# EAGLE library part SN74LVC138APWR_LCSC (library lcsc_parts)
Description: 3/8 1.65V~3.6V 10uA 6.7ns@3.3V,50pF Level shifting TSSOP-16 Signal Switches, Multiplexers, Decoders RoHS Manufacturer: TI MPN: SN74LVC138APWR LCSC Part: C485077 Category: Signal Switches, Multiplexers, Decoders Datasheet: https://datasheet.lcsc.com/datasheet/pdf/86625edca651f0d846540614add128e2.pdf?productCode=C485077
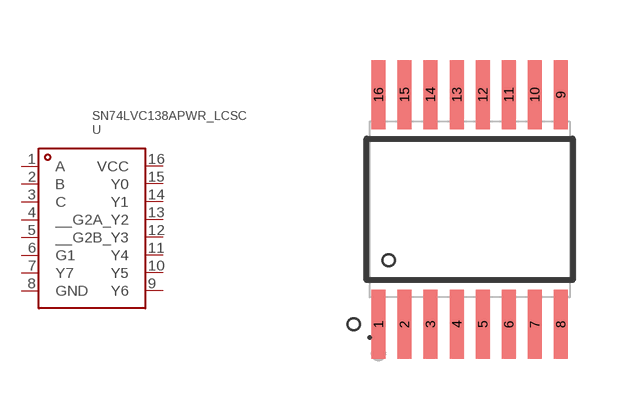
[diagram p7: symbol with the pads of TSSOP-16_L5.0-W4.4-P0.65-LS6.4-BL; footprint TSSOP-16_L5.0-W4.4-P0.65-LS6.4-BL]

Designator prefix U

## SN74LVC138APWR_LCSC (CATEGORY: Signal Switches, Multiplexers, Decoders; CURRENT_OUTPUT_HIGH_IOH: 24mA; CURRENT_OUTPUT_LOW_IOL: 24mA; DATASHEET: https://datasheet.lcsc.com/datasheet/pdf/86625edca651f0d846540614add128e2.pdf?productCode=C485077; DESCRIPTION: 3/8 1.65V~3.6V 10uA 6.7ns@3.3V,50pF Level shifting TSSOP-16 Signal Switches, Multiplexers, Decoders RoHS; FUNCTION: Level shifting; LCSC_PART: C485077; LCSC_STOCK: 1770; MANUFACTURER: TI; MPN: SN74LVC138APWR; NUMBER_OF_CHANNELS: 3/8; OPERATING_TEMPERATURE: -40℃~+85℃; PARTNO: SN74LVC138APWR; PRICING_1000: $0.3736/unit @ 1000; PRICING_50: $0.5214/unit @ 50; PROPAGATION_DELAY: 6.7ns@3.3V,50pF; QUIESCENT_CURRENT: 10uA; SERIES: 74LVC; TYPE: Decoder; VOLTAGE_SUPPLY: 1.65V~3.6V)  [TSSOP-16_L5.0-W4.4-P0.65-LS6.4-BL]
1  A
2  B
3  C
4  __G2A_
5  __G2B_
6  G1
7  Y7
8  GND
9  Y6
10  Y5
11  Y4
12  Y3
13  Y2
14  Y1
15  Y0
16  VCC

## Footprint TSSOP-16_L5.0-W4.4-P0.65-LS6.4-BL (pad centres in mm)
smd 0.343 x 1.731: 1 -2.28,-2.87; 2 -1.63,-2.87; 3 -0.98,-2.87; 4 -0.32,-2.87; 5 0.33,-2.87; 6 0.98,-2.87; 7 1.63,-2.87; 8 2.28,-2.87; 9 2.28,2.87; 10 1.63,2.87; 11 0.98,2.87; 12 0.33,2.87; 13 -0.32,2.87; 14 -0.98,2.87; 15 -1.63,2.87; 16 -2.28,2.87